# Altium schematic symbol library SMAconnections.SchLib: 1 symbol
Pins are listed as number, name and electrical type; pins without a type are passive.

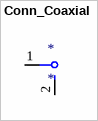
[diagram p0: symbol Conn_Coaxial]

## Conn_Coaxial
designator *
pins: 1 In, 2 Ext